# Altium schematic symbol library freescale.SCHLIB: 14 symbols
Pins are listed as number, name and electrical type; pins without a type are passive.

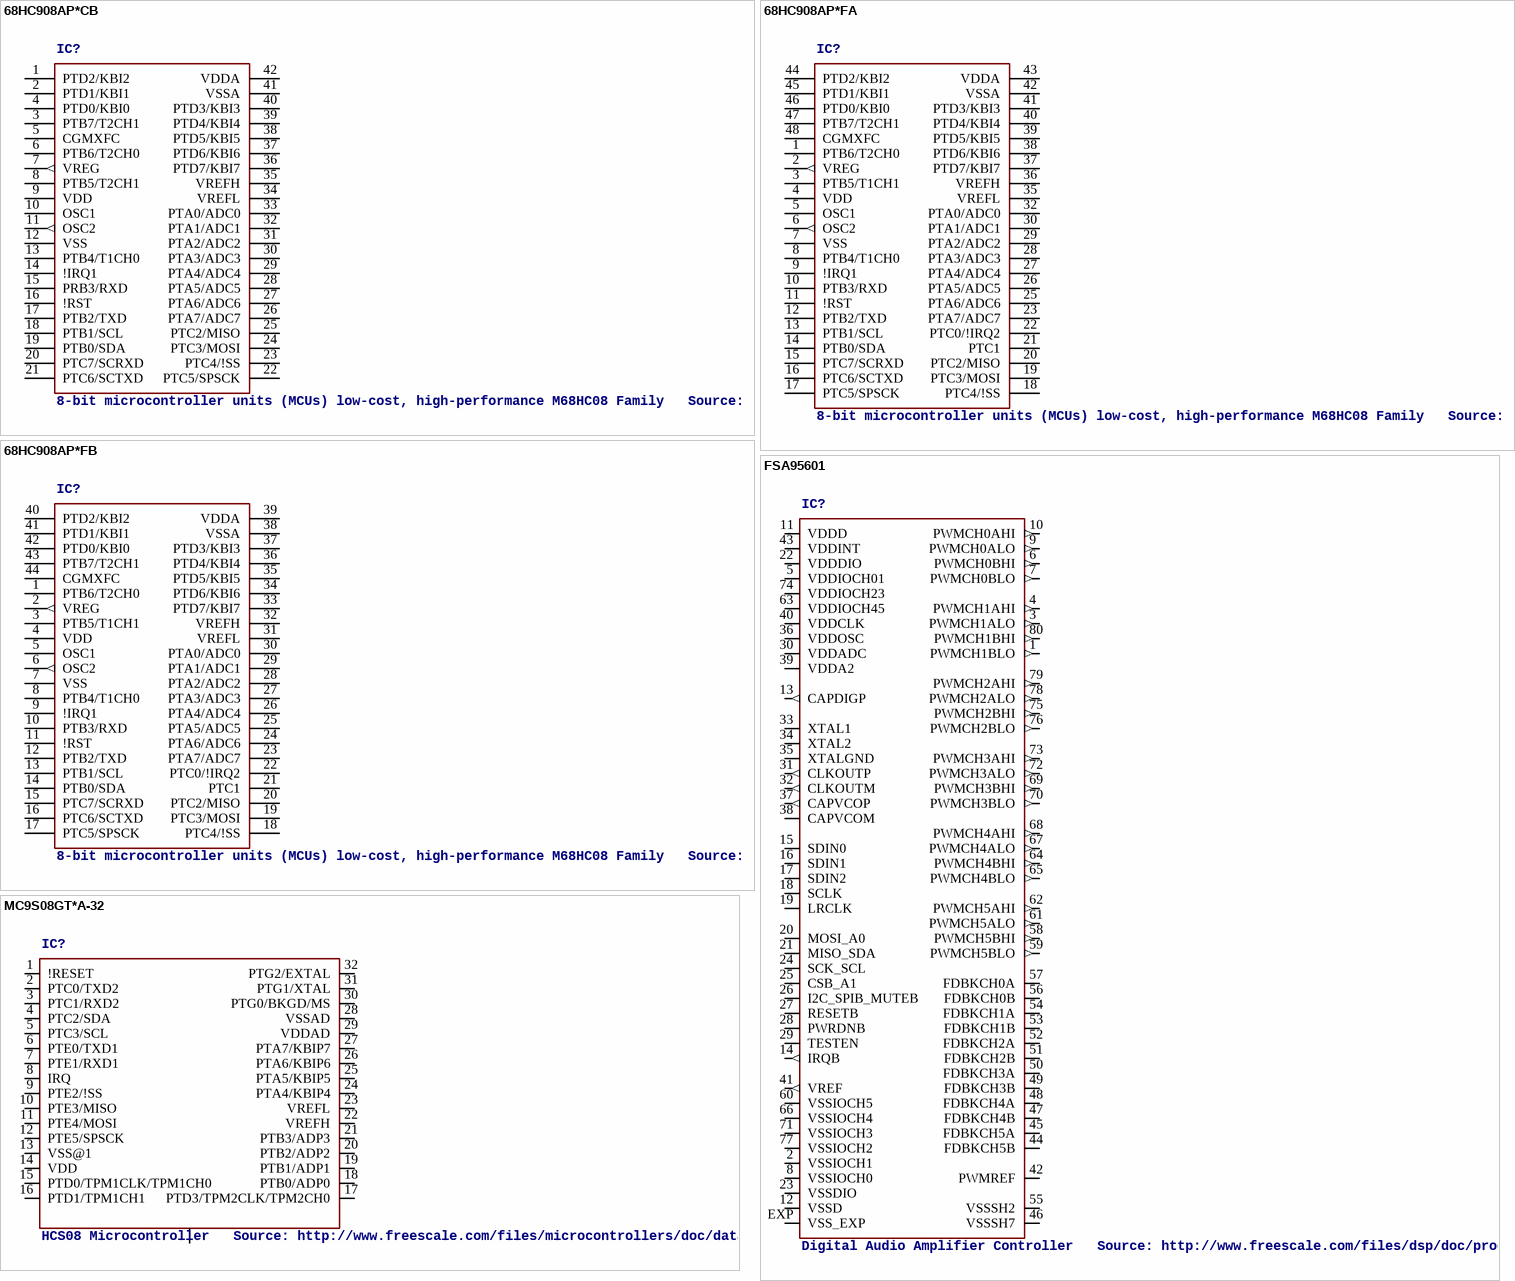
[diagram p0: symbols 68HC908AP*CB to MC9S08GT*A-32]

## 68HC908AP*CB
designator IC?, comment 8-bit microcontroller units (MCUs) low-cost, high-performance M68HC08 Family   Source: http://www.freescale.com/files/microcontrollers/doc/data_sheet/MC68HC908AP64.pdf
MPN: MC68HC908AP16CB; MPN: MC68HC908AP32CB; MPN: MC68HC908AP64CB; MPN: MC68HC908AP8CB; MF: MOTOROLA; OC_FARNELL: unknown; OC_NEWARK: 88H9988; OC_NEWARK: 86H4493; OC_NEWARK: 86H4496; OC_NEWARK: 88H9991
footprint PSDIP_42
pins: 1 PTD2/KBI2, 2 PTD1/KBI1, 3 PTB7/T2CH1, 4 PTD0/KBI0, 5 CGMXFC, 6 PTB6/T2CH0, 7 VREG (out), 8 PTB5/T2CH1, 9 VDD (power), 10 OSC1, 11 OSC2 (out), 12 VSS (power), 13 PTB4/T1CH0, 14 !IRQ1, 15 PRB3/RXD, 16 !RST, 17 PTB2/TXD, 18 PTB1/SCL, 19 PTB0/SDA, 20 PTC7/SCRXD, 21 PTC6/SCTXD, 22 PTC5/SPSCK, 23 PTC4/!SS, 24 PTC3/MOSI, 25 PTC2/MISO, 26 PTA7/ADC7, 27 PTA6/ADC6, 28 PTA5/ADC5, 29 PTA4/ADC4, 30 PTA3/ADC3, 31 PTA2/ADC2, 32 PTA1/ADC1, 33 PTA0/ADC0, 34 VREFL, 35 VREFH, 36 PTD7/KBI7, 37 PTD6/KBI6, 38 PTD5/KBI5, 39 PTD4/KBI4, 40 PTD3/KBI3, 41 VSSA (power), 42 VDDA (power)

## 68HC908AP*FA
designator IC?, comment 8-bit microcontroller units (MCUs) low-cost, high-performance M68HC08 Family   Source: http://www.freescale.com/files/microcontrollers/doc/data_sheet/MC68HC908AP64.pdf
MPN: MC68HC908AP16CFA; MPN: MC68HC908AP32CFA; MPN: MC68HC908AP64CFA; MPN: MC68HC908AP8CFA; MF: MOTOROLA; OC_FARNELL: unknown; OC_NEWARK: 88H9989; OC_NEWARK: 86H4494; OC_NEWARK: 86H4497; OC_NEWARK: 88H9992
footprint TQFP48_7X7
pins: 1 PTB6/T2CH0, 2 VREG (out), 3 PTB5/T1CH1, 4 VDD (power), 5 OSC1, 6 OSC2 (out), 7 VSS (power), 8 PTB4/T1CH0, 9 !IRQ1, 10 PTB3/RXD, 11 !RST, 12 PTB2/TXD, 13 PTB1/SCL, 14 PTB0/SDA, 15 PTC7/SCRXD, 16 PTC6/SCTXD, 17 PTC5/SPSCK, 18 PTC4/!SS, 19 PTC3/MOSI, 20 PTC2/MISO, 21 PTC1, 22 PTC0/!IRQ2, 23 PTA7/ADC7, 25 PTA6/ADC6, 26 PTA5/ADC5, 27 PTA4/ADC4, 28 PTA3/ADC3, 29 PTA2/ADC2, 30 PTA1/ADC1, 32 PTA0/ADC0, 35 VREFL, 36 VREFH, 37 PTD7/KBI7, 38 PTD6/KBI6, 39 PTD5/KBI5, 40 PTD4/KBI4, 41 PTD3/KBI3, 42 VSSA (power), 43 VDDA (power), 44 PTD2/KBI2, 45 PTD1/KBI1, 46 PTD0/KBI0, 47 PTB7/T2CH1, 48 CGMXFC

## 68HC908AP*FB
designator IC?, comment 8-bit microcontroller units (MCUs) low-cost, high-performance M68HC08 Family   Source: http://www.freescale.com/files/microcontrollers/doc/data_sheet/MC68HC908AP64.pdf
MPN: MC68HC908AP16CFB; MPN: MC68HC908AP64CFB; MPN: MC68HC908AP8CFB; MF: MOTOROLA; OC_FARNELL: unknown; OC_NEWARK: 88H9990; OC_NEWARK: unknown; OC_NEWARK: 86H4498; OC_NEWARK: 88H9993
footprint QFP44
pins: 1 PTB6/T2CH0, 2 VREG (out), 3 PTB5/T1CH1, 4 VDD (power), 5 OSC1, 6 OSC2 (out), 7 VSS (power), 8 PTB4/T1CH0, 9 !IRQ1, 10 PTB3/RXD, 11 !RST, 12 PTB2/TXD, 13 PTB1/SCL, 14 PTB0/SDA, 15 PTC7/SCRXD, 16 PTC6/SCTXD, 17 PTC5/SPSCK, 18 PTC4/!SS, 19 PTC3/MOSI, 20 PTC2/MISO, 21 PTC1, 22 PTC0/!IRQ2, 23 PTA7/ADC7, 24 PTA6/ADC6, 25 PTA5/ADC5, 26 PTA4/ADC4, 27 PTA3/ADC3, 28 PTA2/ADC2, 29 PTA1/ADC1, 30 PTA0/ADC0, 31 VREFL, 32 VREFH, 33 PTD7/KBI7, 34 PTD6/KBI6, 35 PTD5/KBI5, 36 PTD4/KBI4, 37 PTD3/KBI3, 38 VSSA (power), 39 VDDA (power), 40 PTD2/KBI2, 41 PTD1/KBI1, 42 PTD0/KBI0, 43 PTB7/T2CH1, 44 CGMXFC

## FSA95601
designator IC?, comment Digital Audio Amplifier Controller   Source: http://www.freescale.com/files/dsp/doc/prod_brief/FSA95601PB.pdf
MPN: FSA95601AH; OC_FARNELL: unknown; OC_NEWARK: 69M3598
footprint QFP-12X12-80E
pins: 1 PWMCH1BLO (out), 2 VSSIOCH1, 3 PWMCH1ALO (out), 4 PWMCH1AHI (out), 5 VDDIOCH01, 6 PWMCH0BHI (out), 7 PWMCH0BLO (out), 8 VSSIOCH0, 9 PWMCH0ALO (out), 10 PWMCH0AHI (out), 11 VDDD, 12 VSSD, 13 CAPDIGP (out), 14 IRQB (out), 15 SDIN0, 16 SDIN1, 17 SDIN2, 18 SCLK, 19 LRCLK, 20 MOSI_A0, 21 MISO_SDA, 22 VDDDIO, 23 VSSDIO, 24 SCK_SCL, 25 CSB_A1, 26 I2C_SPIB_MUTEB, 27 RESETB, 28 PWRDNB, 29 TESTEN, 30 VDDADC, 31 CLKOUTP (out), 32 CLKOUTM (out), 33 XTAL1, 34 XTAL2, 35 XTALGND, 36 VDDOSC, 37 CAPVCOP (out), 38 CAPVCOM, 39 VDDA2, 40 VDDCLK, 41 VREF (out), 42 PWMREF, 43 VDDINT, 44 FDBKCH5B, 45 FDBKCH5A, 46 VSSSH7, 47 FDBKCH4B, 48 FDBKCH4A, 49 FDBKCH3B, 50 FDBKCH3A, 51 FDBKCH2B, 52 FDBKCH2A, 53 FDBKCH1B, 54 FDBKCH1A, 55 VSSSH2, 56 FDBKCH0B, 57 FDBKCH0A, 58 PWMCH5BHI (out), 59 PWMCH5BLO (out), 60 VSSIOCH5, 61 PWMCH5ALO (out), 62 PWMCH5AHI (out), 63 VDDIOCH45, 64 PWMCH4BHI (out), 65 PWMCH4BLO (out), 66 VSSIOCH4, 67 PWMCH4ALO (out), 68 PWMCH4AHI (out), 69 PWMCH3BHI (out), 70 PWMCH3BLO (out), 71 VSSIOCH3, 72 PWMCH3ALO (out), 73 PWMCH3AHI (out), 74 VDDIOCH23, 75 PWMCH2BHI (out), 76 PWMCH2BLO (out), 77 VSSIOCH2, 78 PWMCH2ALO (out), 79 PWMCH2AHI (out), 80 PWMCH1BHI (out), EXP VSS_EXP

## MC9S08GT*A-32
designator IC?, comment HCS08 Microcontroller   Source: http://www.freescale.com/files/microcontrollers/doc/data_sheet/MC9S08GT16A.pdf
MPN: MC9S08GT16ACFCE; MPN: MC9S08GT8AMFCE; MF: MOTOROLA; OC_FARNELL: unknown; OC_NEWARK: 01M5860; OC_FARNELL: 1294367; OC_NEWARK: 01M5873
footprint QFN32
pins: 1 !RESET, 2 PTC0/TXD2, 3 PTC1/RXD2, 4 PTC2/SDA, 5 PTC3/SCL, 6 PTE0/TXD1, 7 PTE1/RXD1, 8 IRQ, 9 PTE2/!SS, 10 PTE3/MISO, 11 PTE4/MOSI, 12 PTE5/SPSCK, 13 VSS@1 (power), 14 VDD (power), 15 PTD0/TPM1CLK/TPM1CH0, 16 PTD1/TPM1CH1, 17 PTD3/TPM2CLK/TPM2CH0, 18 PTB0/ADP0, 19 PTB1/ADP1, 20 PTB2/ADP2, 21 PTB3/ADP3, 22 VREFH, 23 VREFL, 24 PTA4/KBIP4, 25 PTA5/KBIP5, 26 PTA6/KBIP6, 27 PTA7/KBIP7, 28 VSSAD (power), 29 VDDAD (power), 30 PTG0/BKGD/MS, 31 PTG1/XTAL, 32 PTG2/EXTAL, EXP

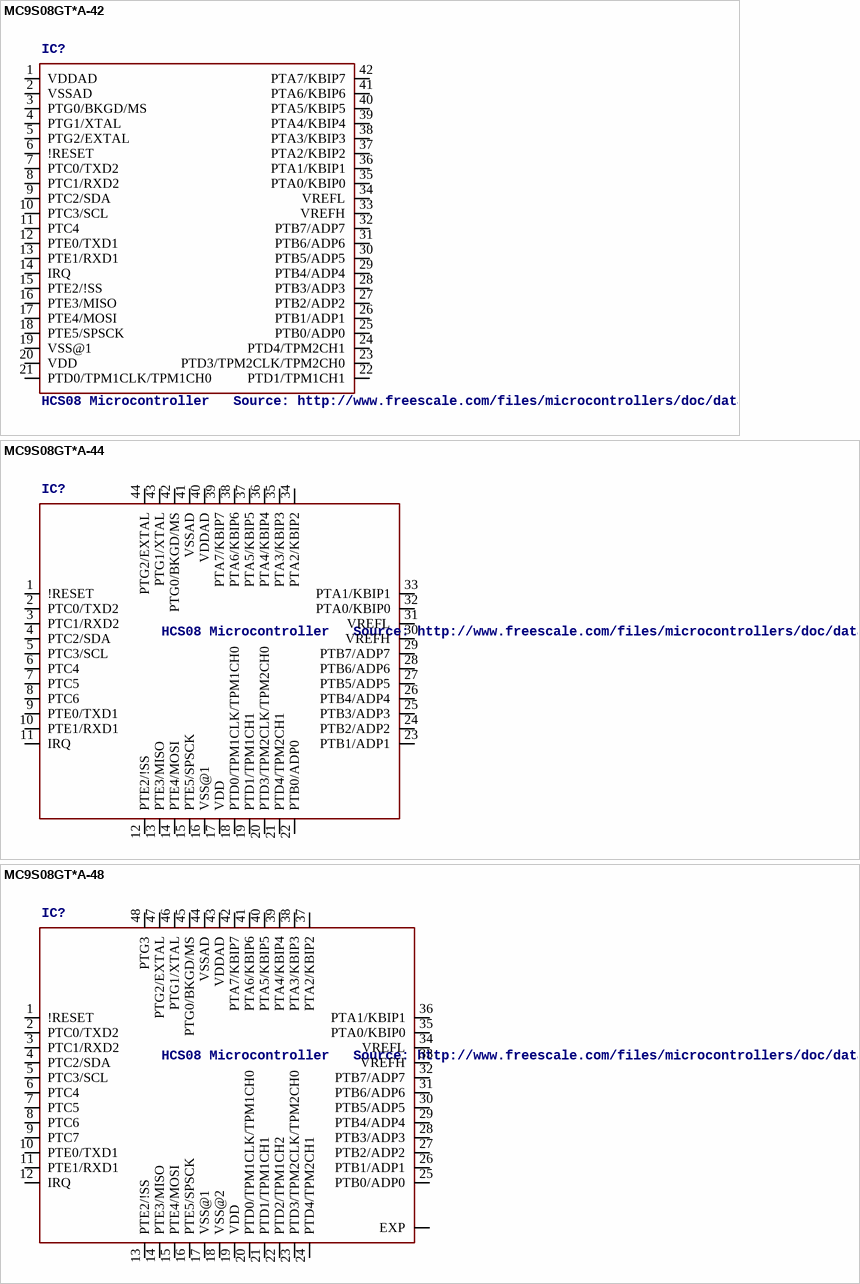
[diagram p1: symbols MC9S08GT*A-42 to MC9S08GT*A-48]

## MC9S08GT*A-42
designator IC?, comment HCS08 Microcontroller   Source: http://www.freescale.com/files/microcontrollers/doc/data_sheet/MC9S08GT16A.pdf
MPN: MC9S08GT16ACBE; MPN: MC9S08GT8ACBE; MF: MOTOROLA; OC_FARNELL: unknown; OC_NEWARK: 01M5858; OC_FARNELL: 1294366; OC_NEWARK: 01M5868
footprint PSDIP_42
pins: 1 VDDAD (power), 2 VSSAD (power), 3 PTG0/BKGD/MS, 4 PTG1/XTAL, 5 PTG2/EXTAL, 6 !RESET, 7 PTC0/TXD2, 8 PTC1/RXD2, 9 PTC2/SDA, 10 PTC3/SCL, 11 PTC4, 12 PTE0/TXD1, 13 PTE1/RXD1, 14 IRQ, 15 PTE2/!SS, 16 PTE3/MISO, 17 PTE4/MOSI, 18 PTE5/SPSCK, 19 VSS@1 (power), 20 VDD (power), 21 PTD0/TPM1CLK/TPM1CH0, 22 PTD1/TPM1CH1, 23 PTD3/TPM2CLK/TPM2CH0, 24 PTD4/TPM2CH1, 25 PTB0/ADP0, 26 PTB1/ADP1, 27 PTB2/ADP2, 28 PTB3/ADP3, 29 PTB4/ADP4, 30 PTB5/ADP5, 31 PTB6/ADP6, 32 PTB7/ADP7, 33 VREFH, 34 VREFL, 35 PTA0/KBIP0, 36 PTA1/KBIP1, 37 PTA2/KBIP2, 38 PTA3/KBIP3, 39 PTA4/KBIP4, 40 PTA5/KBIP5, 41 PTA6/KBIP6, 42 PTA7/KBIP7

## MC9S08GT*A-44
designator IC?, comment HCS08 Microcontroller   Source: http://www.freescale.com/files/microcontrollers/doc/data_sheet/MC9S08GT16A.pdf
MPN: MC9S08GT16ACFBE; MPN: MC9S08GT8AMFBE; MF: MOTOROLA; OC_FARNELL: 1579706; OC_NEWARK: 01M5859; OC_FARNELL: 1294361; OC_NEWARK: 01M5872
footprint QFP44
pins: 1 !RESET, 2 PTC0/TXD2, 3 PTC1/RXD2, 4 PTC2/SDA, 5 PTC3/SCL, 6 PTC4, 7 PTC5, 8 PTC6, 9 PTE0/TXD1, 10 PTE1/RXD1, 11 IRQ, 12 PTE2/!SS, 13 PTE3/MISO, 14 PTE4/MOSI, 15 PTE5/SPSCK, 16 VSS@1 (power), 17 VDD (power), 18 PTD0/TPM1CLK/TPM1CH0, 19 PTD1/TPM1CH1, 20 PTD3/TPM2CLK/TPM2CH0, 21 PTD4/TPM2CH1, 22 PTB0/ADP0, 23 PTB1/ADP1, 24 PTB2/ADP2, 25 PTB3/ADP3, 26 PTB4/ADP4, 27 PTB5/ADP5, 28 PTB6/ADP6, 29 PTB7/ADP7, 30 VREFH, 31 VREFL, 32 PTA0/KBIP0, 33 PTA1/KBIP1, 34 PTA2/KBIP2, 35 PTA3/KBIP3, 36 PTA4/KBIP4, 37 PTA5/KBIP5, 38 PTA6/KBIP6, 39 PTA7/KBIP7, 40 VDDAD (power), 41 VSSAD (power), 42 PTG0/BKGD/MS, 43 PTG1/XTAL, 44 PTG2/EXTAL

## MC9S08GT*A-48
designator IC?, comment HCS08 Microcontroller   Source: http://www.freescale.com/files/microcontrollers/doc/data_sheet/MC9S08GT16A.pdf
MPN: MC9S08GT16ACFDE; MPN: MC9S08GT8AMFDE; MF: MOTOROLA; OC_FARNELL: 1579705; OC_NEWARK: 01M5861; OC_FARNELL: 1294360; OC_NEWARK: 01M5874
footprint QFN48
pins: 1 !RESET, 2 PTC0/TXD2, 3 PTC1/RXD2, 4 PTC2/SDA, 5 PTC3/SCL, 6 PTC4, 7 PTC5, 8 PTC6, 9 PTC7, 10 PTE0/TXD1, 11 PTE1/RXD1, 12 IRQ, 13 PTE2/!SS, 14 PTE3/MISO, 15 PTE4/MOSI, 16 PTE5/SPSCK, 17 VSS@1 (power), 18 VSS@2 (power), 19 VDD (power), 20 PTD0/TPM1CLK/TPM1CH0, 21 PTD1/TPM1CH1, 22 PTD2/TPM1CH2, 23 PTD3/TPM2CLK/TPM2CH0, 24 PTD4/TPM2CH1, 25 PTB0/ADP0, 26 PTB1/ADP1, 27 PTB2/ADP2, 28 PTB3/ADP3, 29 PTB4/ADP4, 30 PTB5/ADP5, 31 PTB6/ADP6, 32 PTB7/ADP7, 33 VREFH, 34 VREFL, 35 PTA0/KBIP0, 36 PTA1/KBIP1, 37 PTA2/KBIP2, 38 PTA3/KBIP3, 39 PTA4/KBIP4, 40 PTA5/KBIP5, 41 PTA6/KBIP6, 42 PTA7/KBIP7, 43 VDDAD (power), 44 VSSAD (power), 45 PTG0/BKGD/MS, 46 PTG1/XTAL, 47 PTG2/EXTAL, 48 PTG3, EXP

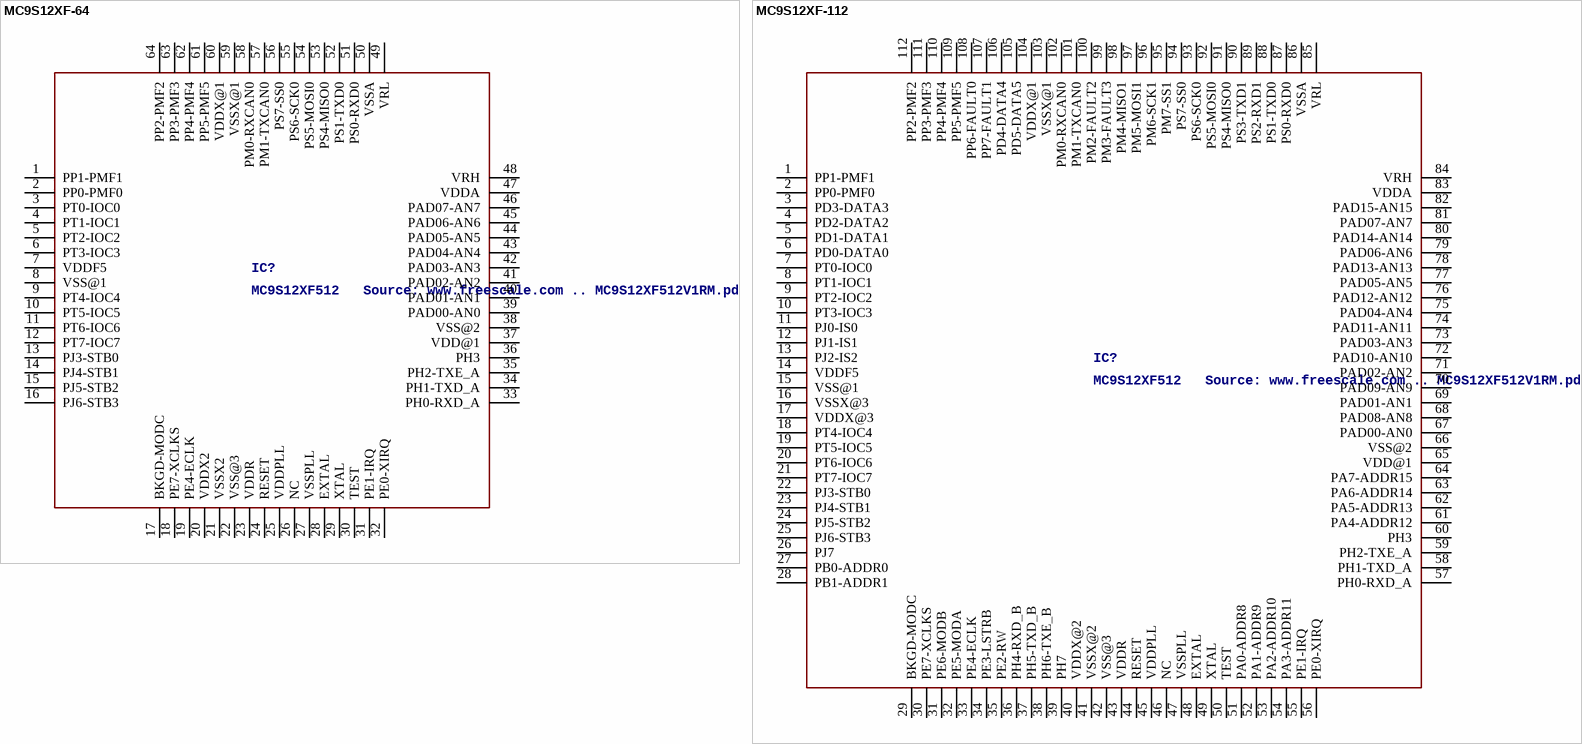
[diagram p2: symbols MC9S12XF-64 to MC9S12XF-112]

## MC9S12XF-64
designator IC?, comment MC9S12XF512   Source: www.freescale.com .. MC9S12XF512V1RM.pdf
OC_FARNELL: unknown; OC_NEWARK: unknown
footprint SQFP-S-10X10-64
pins: 1 PP1-PMF1, 2 PP0-PMF0, 3 PT0-IOC0, 4 PT1-IOC1, 5 PT2-IOC2, 6 PT3-IOC3, 7 VDDF5 (power), 8 VSS@1 (power), 9 PT4-IOC4, 10 PT5-IOC5, 11 PT6-IOC6, 12 PT7-IOC7, 13 PJ3-STB0, 14 PJ4-STB1, 15 PJ5-STB2, 16 PJ6-STB3, 17 BKGD-MODC, 18 PE7-XCLKS, 19 PE4-ECLK, 20 VDDX2 (power), 21 VSSX2 (power), 22 VSS@3 (power), 23 VDDR (power), 24 RESET, 25 VDDPLL (power), 26 NC, 27 VSSPLL (power), 28 EXTAL, 29 XTAL, 30 TEST, 31 PE1-IRQ, 32 PE0-XIRQ, 33 PH0-RXD_A, 34 PH1-TXD_A, 35 PH2-TXE_A, 36 PH3, 37 VDD@1 (power), 38 VSS@2 (power), 39 PAD00-AN0, 40 PAD01-AN1, 41 PAD02-AN2, 42 PAD03-AN3, 43 PAD04-AN4, 44 PAD05-AN5, 45 PAD06-AN6, 46 PAD07-AN7, 47 VDDA (power), 48 VRH (power), 49 VRL (power), 50 VSSA (power), 51 PS0-RXD0, 52 PS1-TXD0, 53 PS4-MISO0, 54 PS5-MOSI0, 55 PS6-SCK0, 56 PS7-SS0, 57 PM1-TXCAN0, 58 PM0-RXCAN0, 59 VSSX@1 (power), 60 VDDX@1 (power), 61 PP5-PMF5, 62 PP4-PMF4, 63 PP3-PMF3, 64 PP2-PMF2

## MC9S12XF-112
designator IC?, comment MC9S12XF512   Source: www.freescale.com .. MC9S12XF512V1RM.pdf
OC_FARNELL: unknown; OC_NEWARK: unknown
footprint SQFP-S-20X20-112
pins: 1 PP1-PMF1, 2 PP0-PMF0, 3 PD3-DATA3, 4 PD2-DATA2, 5 PD1-DATA1, 6 PD0-DATA0, 7 PT0-IOC0, 8 PT1-IOC1, 9 PT2-IOC2, 10 PT3-IOC3, 11 PJ0-IS0, 12 PJ1-IS1, 13 PJ2-IS2, 14 VDDF5 (power), 15 VSS@1 (power), 16 VSSX@3 (power), 17 VDDX@3 (power), 18 PT4-IOC4, 19 PT5-IOC5, 20 PT6-IOC6, 21 PT7-IOC7, 22 PJ3-STB0, 23 PJ4-STB1, 24 PJ5-STB2, 25 PJ6-STB3, 26 PJ7, 27 PB0-ADDR0, 28 PB1-ADDR1, 29 BKGD-MODC, 30 PE7-XCLKS, 31 PE6-MODB, 32 PE5-MODA, 33 PE4-ECLK, 34 PE3-LSTRB, 35 PE2-RW, 36 PH4-RXD_B, 37 PH5-TXD_B, 38 PH6-TXE_B, 39 PH7, 40 VDDX@2 (power), 41 VSSX@2 (power), 42 VSS@3 (power), 43 VDDR (power), 44 RESET, 45 VDDPLL (power), 46 NC, 47 VSSPLL (power), 48 EXTAL, 49 XTAL, 50 TEST, 51 PA0-ADDR8, 52 PA1-ADDR9, 53 PA2-ADDR10, 54 PA3-ADDR11, 55 PE1-IRQ, 56 PE0-XIRQ, 57 PH0-RXD_A, 58 PH1-TXD_A, 59 PH2-TXE_A, 60 PH3, 61 PA4-ADDR12, 62 PA5-ADDR13, 63 PA6-ADDR14, 64 PA7-ADDR15, 65 VDD@1 (power), 66 VSS@2 (power), 67 PAD00-AN0, 68 PAD08-AN8, 69 PAD01-AN1, 70 PAD09-AN9, 71 PAD02-AN2, 72 PAD10-AN10, 73 PAD03-AN3, 74 PAD11-AN11, 75 PAD04-AN4, 76 PAD12-AN12, 77 PAD05-AN5, 78 PAD13-AN13, 79 PAD06-AN6, 80 PAD14-AN14, 81 PAD07-AN7, 82 PAD15-AN15, 83 VDDA (power), 84 VRH (power), 85 VRL (power), 86 VSSA (power), 87 PS0-RXD0, 88 PS1-TXD0, 89 PS2-RXD1, 90 PS3-TXD1, 91 PS4-MISO0, 92 PS5-MOSI0, 93 PS6-SCK0, 94 PS7-SS0, 95 PM7-SS1, 96 PM6-SCK1, 97 PM5-MOSI1, 98 PM4-MISO1, 99 PM3-FAULT3, 100 PM2-FAULT2, 101 PM1-TXCAN0, 102 PM0-RXCAN0, 103 VSSX@1 (power), 104 VDDX@1 (power), 105 PD5-DATA5, 106 PD4-DATA4, 107 PP7-FAULT1, 108 PP6-FAULT0, 109 PP5-PMF5, 110 PP4-PMF4, 111 PP3-PMF3, 112 PP2-PMF2

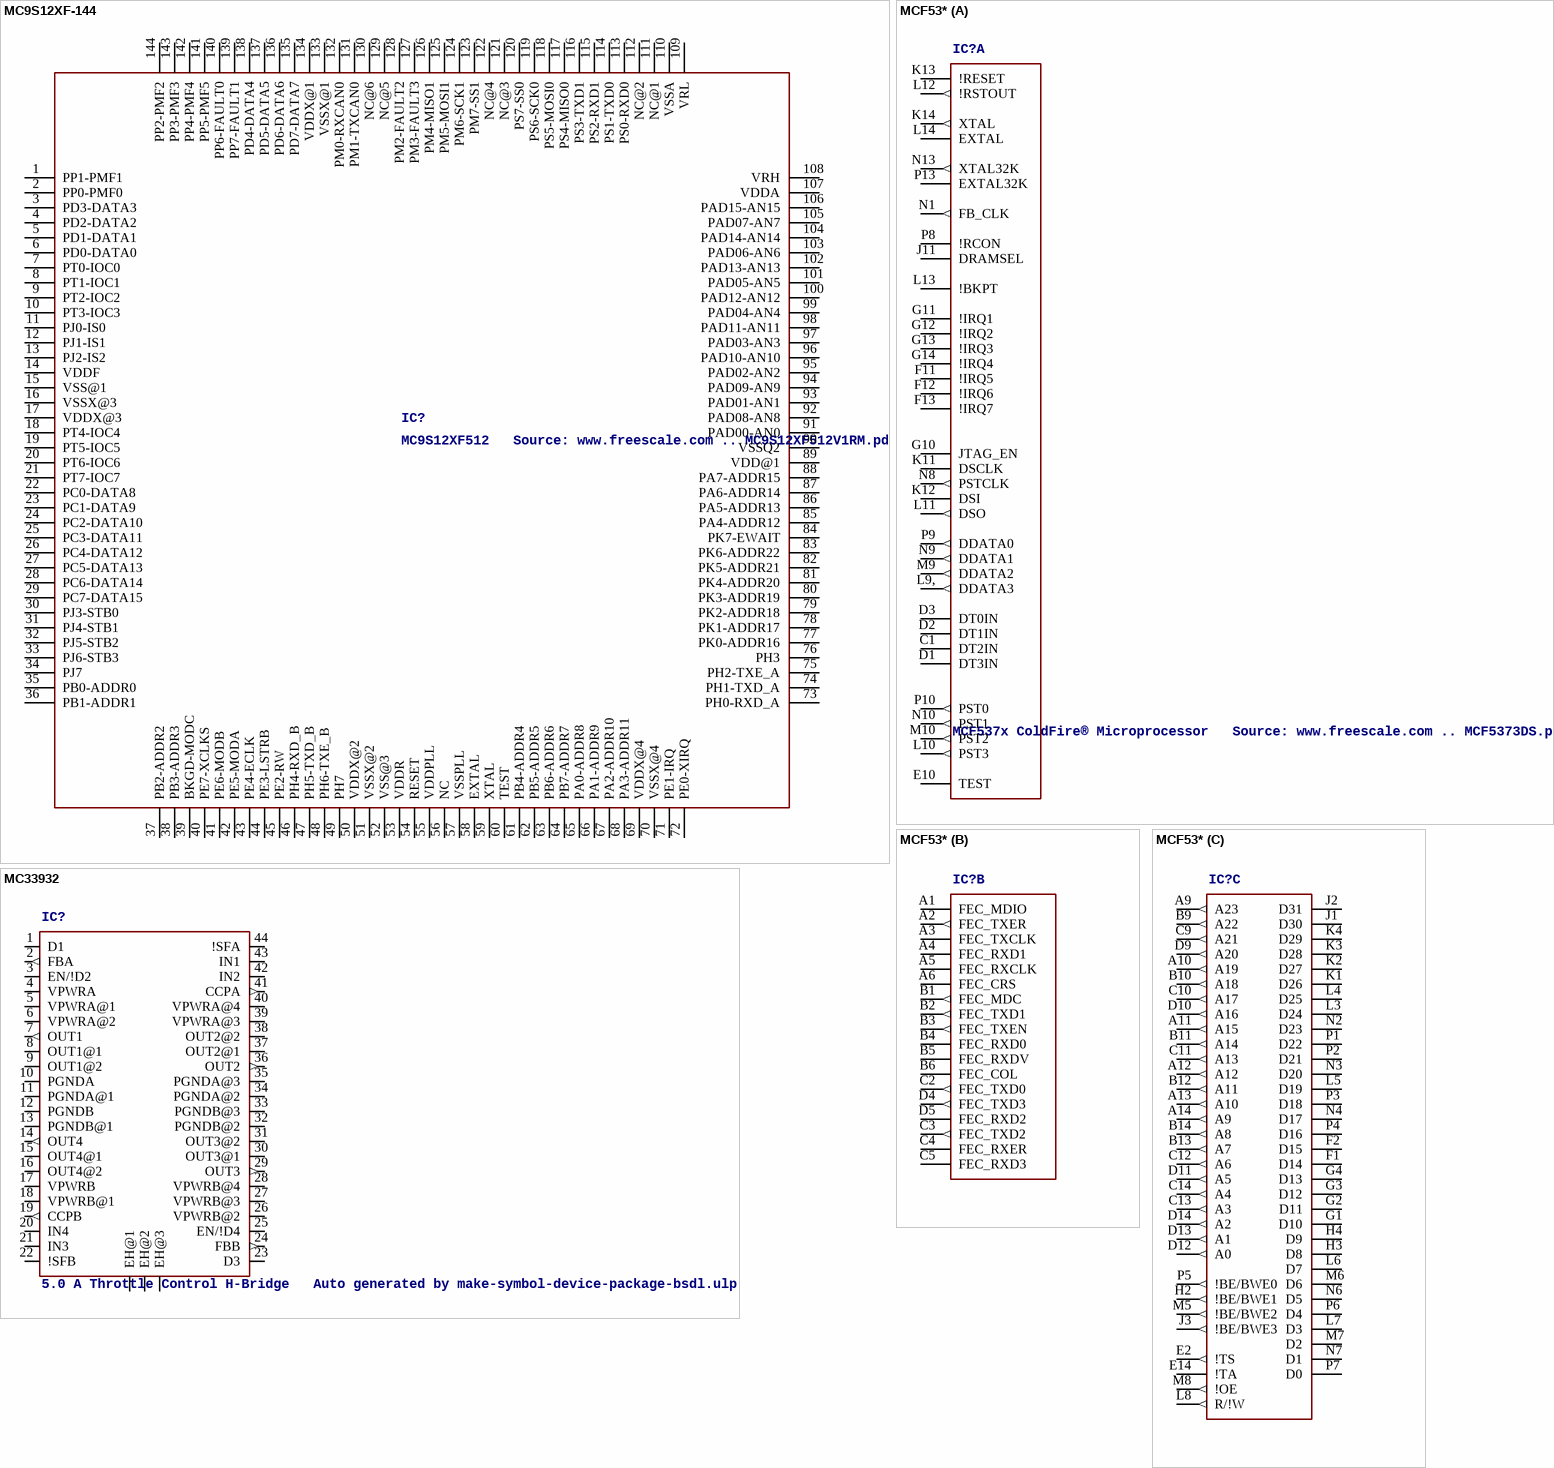
[diagram p3: symbols MC9S12XF-144 to MCF53*]

## MC9S12XF-144
designator IC?, comment MC9S12XF512   Source: www.freescale.com .. MC9S12XF512V1RM.pdf
MPN: LFDAS12XFLT; OC_FARNELL: unknown; OC_NEWARK: 14M5920
footprint SQFP-S-20X20-144
pins: 1 PP1-PMF1, 2 PP0-PMF0, 3 PD3-DATA3, 4 PD2-DATA2, 5 PD1-DATA1, 6 PD0-DATA0, 7 PT0-IOC0, 8 PT1-IOC1, 9 PT2-IOC2, 10 PT3-IOC3, 11 PJ0-IS0, 12 PJ1-IS1, 13 PJ2-IS2, 14 VDDF (power), 15 VSS@1 (power), 16 VSSX@3 (power), 17 VDDX@3 (power), 18 PT4-IOC4, 19 PT5-IOC5, 20 PT6-IOC6, 21 PT7-IOC7, 22 PC0-DATA8, 23 PC1-DATA9, 24 PC2-DATA10, 25 PC3-DATA11, 26 PC4-DATA12, 27 PC5-DATA13, 28 PC6-DATA14, 29 PC7-DATA15, 30 PJ3-STB0, 31 PJ4-STB1, 32 PJ5-STB2, 33 PJ6-STB3, 34 PJ7, 35 PB0-ADDR0, 36 PB1-ADDR1, 37 PB2-ADDR2, 38 PB3-ADDR3, 39 BKGD-MODC, 40 PE7-XCLKS, 41 PE6-MODB, 42 PE5-MODA, 43 PE4-ECLK, 44 PE3-LSTRB, 45 PE2-RW, 46 PH4-RXD_B, 47 PH5-TXD_B, 48 PH6-TXE_B, 49 PH7, 50 VDDX@2 (power), 51 VSSX@2 (power), 52 VSS@3 (power), 53 VDDR (power), 54 RESET, 55 VDDPLL (power), 56 NC, 57 VSSPLL (power), 58 EXTAL, 59 XTAL, 60 TEST, 61 PB4-ADDR4, 62 PB5-ADDR5, 63 PB6-ADDR6, 64 PB7-ADDR7, 65 PA0-ADDR8, 66 PA1-ADDR9, 67 PA2-ADDR10, 68 PA3-ADDR11, 69 VDDX@4 (power), 70 VSSX@4 (power), 71 PE1-IRQ, 72 PE0-XIRQ, 73 PH0-RXD_A, 74 PH1-TXD_A, 75 PH2-TXE_A, 76 PH3, 77 PK0-ADDR16, 78 PK1-ADDR17, 79 PK2-ADDR18, 80 PK3-ADDR19, 81 PK4-ADDR20, 82 PK5-ADDR21, 83 PK6-ADDR22, 84 PK7-EWAIT, 85 PA4-ADDR12, 86 PA5-ADDR13, 87 PA6-ADDR14, 88 PA7-ADDR15, 89 VDD@1 (power), 90 VSSQ2 (power), 91 PAD00-AN0, 92 PAD08-AN8, 93 PAD01-AN1, 94 PAD09-AN9, 95 PAD02-AN2, 96 PAD10-AN10, 97 PAD03-AN3, 98 PAD11-AN11, 99 PAD04-AN4, 100 PAD12-AN12, 101 PAD05-AN5, 102 PAD13-AN13, 103 PAD06-AN6, 104 PAD14-AN14, 105 PAD07-AN7, 106 PAD15-AN15, 107 VDDA (power), 108 VRH (power), 109 VRL (power), 110 VSSA (power), 111 NC@1, 112 NC@2, 113 PS0-RXD0, 114 PS1-TXD0, 115 PS2-RXD1, 116 PS3-TXD1, 117 PS4-MISO0, 118 PS5-MOSI0, 119 PS6-SCK0, 120 PS7-SS0, 121 NC@3, 122 NC@4, 123 PM7-SS1, 124 PM6-SCK1, 125 PM5-MOSI1, 126 PM4-MISO1, 127 PM3-FAULT3, 128 PM2-FAULT2, 129 NC@5, 130 NC@6, 131 PM1-TXCAN0, 132 PM0-RXCAN0, 133 VSSX@1 (power), 134 VDDX@1 (power), 135 PD7-DATA7, 136 PD6-DATA6, 137 PD5-DATA5, 138 PD4-DATA4, 139 PP7-FAULT1, 140 PP6-FAULT0, 141 PP5-PMF5, 142 PP4-PMF4, 143 PP3-PMF3, 144 PP2-PMF2

## MC33932
designator IC?, comment 5.0 A Throttle Control H-Bridge   Auto generated by make-symbol-device-package-bsdl.ulp Rev. 33 Source: http://www.freescale.com/files/analog/doc/data_sheet/MC33932.pdf?fpsp=1
MPN: MC33932VW; OC_FARNELL: 1701639; OC_NEWARK: 67P3304
footprint HSOP44
pins: 1 D1, 2 FBA (out), 3 EN/!D2, 4 VPWRA, 5 VPWRA@1, 6 VPWRA@2, 7 OUT1 (out), 8 OUT1@1, 9 OUT1@2, 10 PGNDA (power), 11 PGNDA@1 (power), 12 PGNDB (power), 13 PGNDB@1 (power), 14 OUT4 (out), 15 OUT4@1, 16 OUT4@2, 17 VPWRB, 18 VPWRB@1, 19 CCPB (out), 20 IN4, 21 IN3, 22 !SFB (oc), 23 D3, 24 FBB (out), 25 EN/!D4, 26 VPWRB@2, 27 VPWRB@3, 28 VPWRB@4, 29 OUT3 (out), 30 OUT3@1, 31 OUT3@2, 32 PGNDB@2 (power), 33 PGNDB@3 (power), 34 PGNDA@2 (power), 35 PGNDA@3 (power), 36 OUT2 (out), 37 OUT2@1, 38 OUT2@2, 39 VPWRA@3, 40 VPWRA@4, 41 CCPA (out), 42 IN2, 43 IN1, 44 !SFA (oc), EH@1, EH@2, EH@3

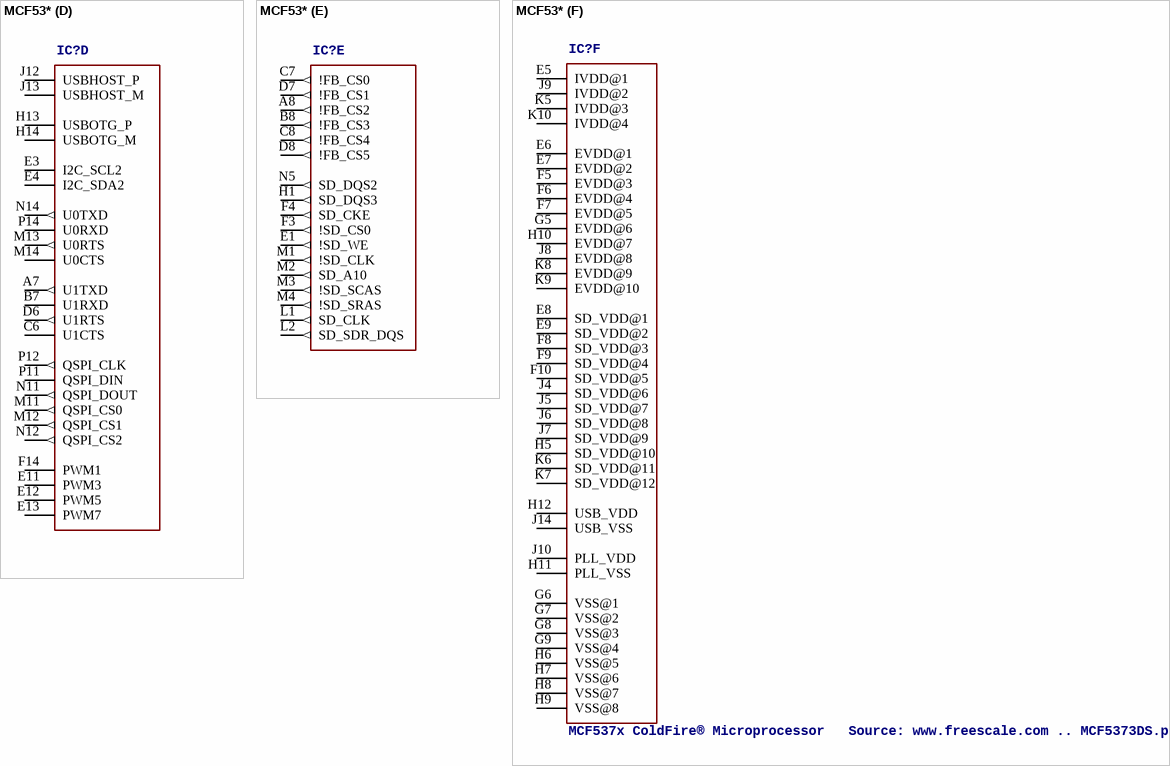
[diagram p4: symbol MCF53*]

## MCF53*
designator IC?, comment MCF537x ColdFire® Microprocessor   Source: www.freescale.com .. MCF5373DS.pdf
MPN: MCF5372LCVM240J; MPN: MCF5373LCVM240J; OC_FARNELL: unknown; OC_NEWARK: unknown; OC_FARNELL: 1380411; OC_NEWARK: 57R6122; OC_FARNELL: 1579871; OC_NEWARK: 57R6123
footprint MAPGBA196
part A pins: C1 DT2IN, D1 DT3IN, D2 DT1IN, D3 DT0IN, E10 TEST, F11 !IRQ5, F12 !IRQ6, F13 !IRQ7, G10 JTAG_EN, G11 !IRQ1, G12 !IRQ2, G13 !IRQ3, G14 !IRQ4, J11 DRAMSEL, K11 DSCLK, K12 DSI, K13 !RESET, K14 XTAL (out), L9, DDATA3 (out), L10 PST3 (out), L11 DSO (out), L12 !RSTOUT (out), L13 !BKPT, L14 EXTAL, M9 DDATA2 (out), M10 PST2 (out), N1 FB_CLK (out), N8 PSTCLK (out), N9 DDATA1 (out), N10 PST1 (out), N13 XTAL32K (out), P8 !RCON, P9 DDATA0 (out), P10 PST0 (out), P13 EXTAL32K
part B pins: A1 FEC_MDIO, A2 FEC_TXER (out), A3 FEC_TXCLK, A4 FEC_RXD1, A5 FEC_RXCLK, A6 FEC_CRS, B1 FEC_MDC (out), B2 FEC_TXD1 (out), B3 FEC_TXEN (out), B4 FEC_RXD0, B5 FEC_RXDV, B6 FEC_COL, C2 FEC_TXD0 (out), C3 FEC_TXD2 (out), C4 FEC_RXER, C5 FEC_RXD3, D4 FEC_TXD3 (out), D5 FEC_RXD2
part C pins: A9 A23 (out), A10 A19 (out), A11 A15 (out), A12 (out), A13 A10 (out), A14 A9 (out), B9 A22 (out), B10 A18 (out), B11 A14 (out), B12 A11 (out), B13 A7 (out), B14 A8 (out), C9 A21 (out), C10 A17 (out), C11 A13 (out), C12 A6 (out), C13 A3 (out), C14 A4 (out), D9 A20 (out), D10 A16 (out), D11 A5 (out), D12 A0 (out), D13 A1 (out), D14 A2 (out), E2 !TS (out), E14 !TA, F1 D14, F2 D15, G1 D10, G2 D11, G3 D12, G4 D13, H2 !BE/BWE1 (out), H3 D8, H4 D9, J1 D30, J2 D31, J3 !BE/BWE3 (out), K1 D26, K2 D27, K3 D28, K4 D29, L3 D24, L4 D25, L5 D19, L6 D7, L7 D3, L8 R/!W (out), M5 !BE/BWE2 (out), M6 D6, M7 D2, M8 !OE (out), N2 D23, N3 D20, N4 D17, N6 D5, N7 D1, P1 D22, P2 D21, P3 D18, P4 D16, P5 !BE/BWE0 (out), P6 D4, P7 D0
part D pins: A7 U1TXD (out), B7 U1RXD, C6 U1CTS, D6 U1RTS (out), E3 I2C_SCL2, E4 I2C_SDA2, E11 PWM3, E12 PWM5, E13 PWM7, F14 PWM1, H13 USBOTG_P, H14 USBOTG_M, J12 USBHOST_P, J13 USBHOST_M, M11 QSPI_CS0 (out), M12 QSPI_CS1 (out), M13 U0RTS (out), M14 U0CTS, N11 QSPI_DOUT (out), N12 QSPI_CS2 (out), N14 U0TXD (out), P11 QSPI_DIN, P12 QSPI_CLK (out), P14 U0RXD
part E pins: A8 !FB_CS2 (out), B8 !FB_CS3 (out), C7 !FB_CS0 (out), C8 !FB_CS4 (out), D7 !FB_CS1 (out), D8 !FB_CS5 (out), E1 !SD_WE (out), F3 !SD_CS0 (out), F4 SD_CKE (out), H1 SD_DQS3 (out), L1 SD_CLK (out), L2 SD_SDR_DQS (out), M1 !SD_CLK (out), M2 SD_A10 (out), M3 !SD_SCAS (out), M4 !SD_SRAS (out), N5 SD_DQS2 (out)
part F pins: E5 IVDD@1 (power), E6 EVDD@1 (power), E7 EVDD@2 (power), E8 SD_VDD@1 (power), E9 SD_VDD@2 (power), F5 EVDD@3 (power), F6 EVDD@4 (power), F7 EVDD@5 (power), F8 SD_VDD@3 (power), F9 SD_VDD@4 (power), F10 SD_VDD@5 (power), G5 EVDD@6 (power), G6 VSS@1 (power), G7 VSS@2 (power), G8 VSS@3 (power), G9 VSS@4 (power), H5 SD_VDD@10 (power), H6 VSS@5 (power), H7 VSS@6 (power), H8 VSS@7 (power), H9 VSS@8 (power), H10 EVDD@7 (power), H11 PLL_VSS (power), H12 USB_VDD (power), J4 SD_VDD@6 (power), J5 SD_VDD@7 (power), J6 SD_VDD@8 (power), J7 SD_VDD@9 (power), J8 EVDD@8 (power), J9 IVDD@2 (power), J10 PLL_VDD (power), J14 USB_VSS (power), K5 IVDD@3 (power), K6 SD_VDD@11 (power), K7 SD_VDD@12 (power), K8 EVDD@9 (power), K9 EVDD@10 (power), K10 IVDD@4 (power)

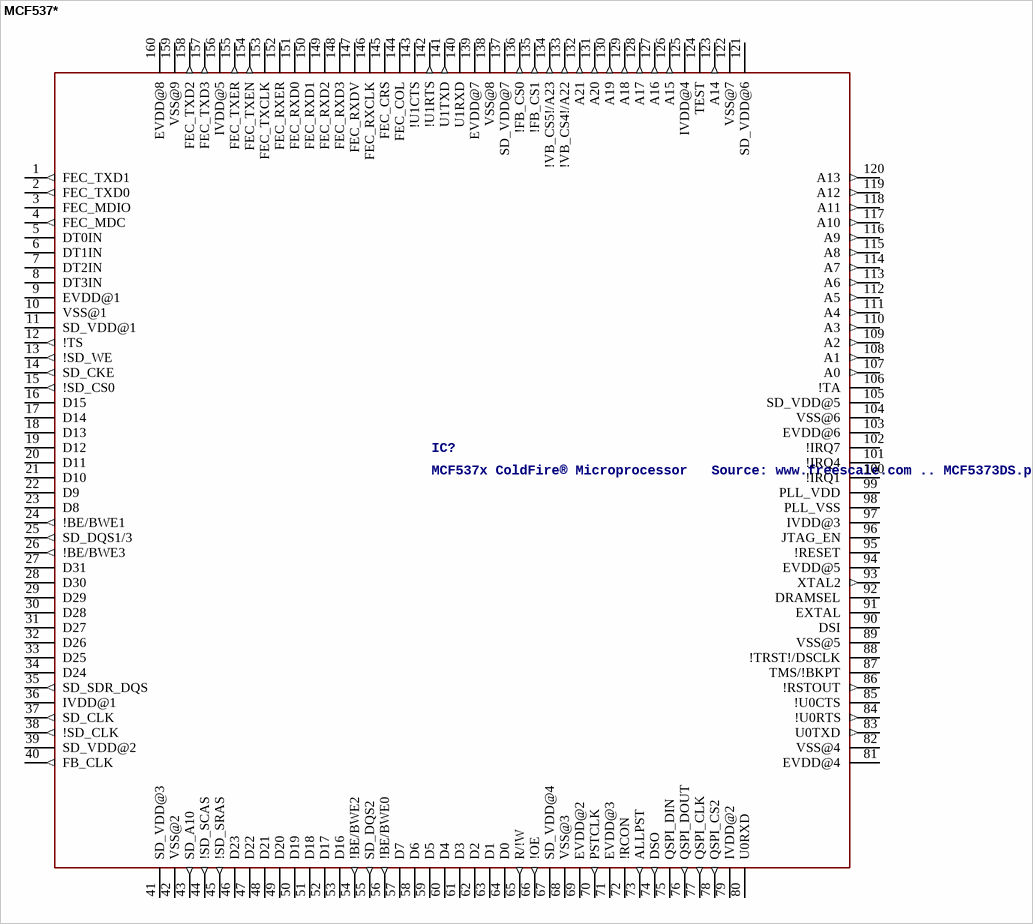
[diagram p5: symbol MCF537*]

## MCF537*
designator IC?, comment MCF537x ColdFire® Microprocessor   Source: www.freescale.com .. MCF5373DS.pdf
OC_FARNELL: unknown; OC_NEWARK: unknown
footprint QFP160
pins: 1 FEC_TXD1 (out), 2 FEC_TXD0 (out), 3 FEC_MDIO, 4 FEC_MDC (out), 5 DT0IN, 6 DT1IN, 7 DT2IN, 8 DT3IN, 9 EVDD@1 (power), 10 VSS@1 (power), 11 SD_VDD@1 (power), 12 !TS (out), 13 !SD_WE (out), 14 SD_CKE (out), 15 !SD_CS0 (out), 16 D15, 17 D14, 18 D13, 19 D12, 20 D11, 21 D10, 22 D9, 23 D8, 24 !BE/BWE1 (out), 25 SD_DQS1/3 (out), 26 !BE/BWE3 (out), 27 D31, 28 D30, 29 D29, 30 D28, 31 D27, 32 D26, 33 D25, 34 D24, 35 SD_SDR_DQS (out), 36 IVDD@1 (power), 37 SD_CLK (out), 38 !SD_CLK (out), 39 SD_VDD@2 (power), 40 FB_CLK (out), 41 SD_VDD@3 (power), 42 VSS@2 (power), 43 SD_A10 (out), 44 !SD_SCAS (out), 45 !SD_SRAS (out), 46 D23, 47 D22, 48 D21, 49 D20, 50 D19, 51 D18, 52 D17, 53 D16, 54 !BE/BWE2 (out), 55 SD_DQS2 (out), 56 !BE/BWE0 (out), 57 D7, 58 D6, 59 D5, 60 D4, 61 D3, 62 D2, 63 D1, 64 D0, 65 R/!W (out), 66 !OE (out), 67 SD_VDD@4 (power), 68 VSS@3 (power), 69 EVDD@2 (power), 70 PSTCLK (out), 71 EVDD@3 (power), 72 !RCON, 73 ALLPST (out), 74 DSO (out), 75 QSPI_DIN, 76 QSPI_DOUT (out), 77 QSPI_CLK (out), 78 QSPI_CS2 (out), 79 IVDD@2 (power), 80 U0RXD, 81 EVDD@4 (power), 82 VSS@4 (power), 83 U0TXD (out), 84 !U0RTS (out), 85 !U0CTS, 86 !RSTOUT (out), 87 TMS/!BKPT, 88 !TRST!/DSCLK, 89 VSS@5 (power), 90 DSI, 91 EXTAL, 92 DRAMSEL, 93 XTAL2 (out), 94 EVDD@5 (power), 95 !RESET, 96 JTAG_EN, 97 IVDD@3 (power), 98 PLL_VSS (power), 99 PLL_VDD (power), 100 !IRQ1, 101 !IRQ4, 102 !IRQ7, 103 EVDD@6 (power), 104 VSS@6 (power), 105 SD_VDD@5 (power), 106 !TA, 107 A0 (out), 108 A1 (out), 109 A2 (out), 110 A3 (out), 111 A4 (out), 112 A5 (out), 113 A6 (out), 114 A7 (out), 115 A8 (out), 116 A9 (out), 117 A10 (out), 118 A11 (out), 119 A12 (out), 120 A13 (out), 121 SD_VDD@6 (power), 122 VSS@7 (power), 123 A14 (out), 124 TEST, 125 IVDD@4 (power), 126 A15 (out), 127 A16 (out), 128 A17 (out), 129 A18 (out), 130 A19 (out), 131 A20 (out), 132 A21 (out), 133 !VB_CS4!/A22 (out), 134 !VB_CS5!/A23 (out), 135 !FB_CS1 (out), 136 !FB_CS0 (out), 137 SD_VDD@7 (power), 138 VSS@8 (power), 139 EVDD@7 (power), 140 U1RXD, 141 U1TXD (out), 142 !U1RTS (out), 143 !U1CTS, 144 FEC_COL, 145 FEC_CRS, 146 FEC_RXCLK, 147 FEC_RXDV, 148 FEC_RXD3, 149 FEC_RXD2, 150 FEC_RXD1, 151 FEC_RXD0, 152 FEC_RXER, 153 FEC_TXCLK, 154 FEC_TXEN (out), 155 FEC_TXER (out), 156 IVDD@5 (power), 157 FEC_TXD3 (out), 158 FEC_TXD2 (out), 159 VSS@9 (power), 160 EVDD@8 (power)